# Altium schematic symbol library RES,0R0,1206.Schlib: 1 symbol
Pins are listed as number, name and electrical type; pins without a type are passive.

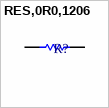
[diagram p0: symbol RES,0R0,1206]

## RES,0R0,1206
designator R?
pins: 1, 2